# EAGLE library part 4N35 (library 4N35)
Transistor Output Optocouplers Phototransistor Out Source: Datasheet
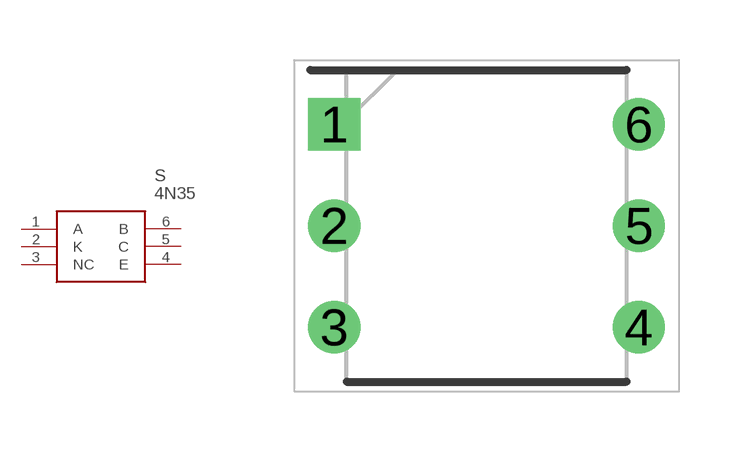
[diagram p0: symbol with the pads of DIP762W60P254L730H450Q6N; footprint DIP762W60P254L730H450Q6N]

Designator prefix S

## 4N35 (Description: Transistor Output Optocouplers Phototransistor Out; Height: 4.5mm; Manufacturer_Name: Vishay; Manufacturer_Part_Number: 4N35; Mouser_Part_Number: 78-4N35; Mouser_Price-Stock: https://www.mouser.co.uk/ProductDetail/Vishay-Semiconductors/4N35?qs=o4busQjUnQaG1dxXB%2Fpaxg%3D%3D)  [DIP762W60P254L730H450Q6N]
1  A
2  K
3  NC  nc
4  E
5  C
6  B

## Footprint DIP762W60P254L730H450Q6N (pad centres in mm)
4N35
drill 0.8 pad 1.2 square: 1 -3.81,2.54
drill 0.8 pad 1.2: 2 -3.81,0; 3 -3.81,-2.54; 4 3.81,-2.54; 5 3.81,0; 6 3.81,2.54